# Altium footprint library 1935268.PcbLib: 1 footprints
Each footprint in its own frame and in the unit in brackets; x right, y up, seen from the top. Pads: shape width x height; smd on the part's side, far side on the other; paste and mask are expansions set on the pad; w line width, h text height; cw(c..) or ccw(c..) is an arc to the next point about the centre after c.
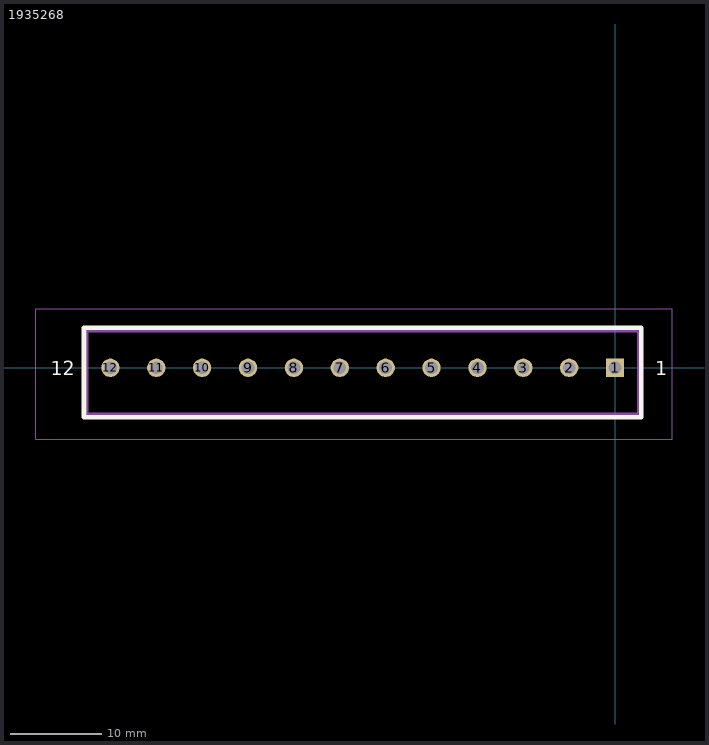
[diagram p0: the footprint, top view; thin cyan lines are the x and y axes]

## 1935268 [mm] "TERM BLOCK PCB 12POS 5.0MM GREEN"
height 11.4
pads (12):
  rect 2x2 hole 1.4: 1(0,0)
  round 2 hole 1.4: 2(-5,0) 3(-10,0) 4(-15,0) 5(-20,0) 6(-25,0) 7(-30,0) 8(-35,0) 9(-40,0) 10(-45,0) 11(-50,0) 12(-55,0)
Top Overlay:
  lines w0.5: -57.875,-5.375 2.875,-5.375 2.875,4.375 -57.875,4.375 -57.875,-5.375
  text "1" at 4.4,-0.825 h1.52
  text "12" at -61.475,-0.825 h1.52
Mechanical 1:
  lines w0.254: -57.5,-5 2.5,-5 2.5,4 -57.5,4 -57.5,-5
Mechanical 2:
  text "Terminal Opening" at -39.725,-3.775 h1.52
Mechanical 3:
  lines w0.1: -63.125,-7.8 -63.125,6.45 6.225,6.45 6.225,-7.8 -63.125,-7.8
3D body: height 11.4, standoff 0, extent -57.5,-5 2.5,4